# EAGLE library part IC_74AC573 (library dp_devices)
8 Transparent Latch with 3-state output Mfr no: SN74AC573NSR Digikey <http://www.digikey.com/product-detail/en/SN74AC573NSR/296-29119-1-ND/2690568>
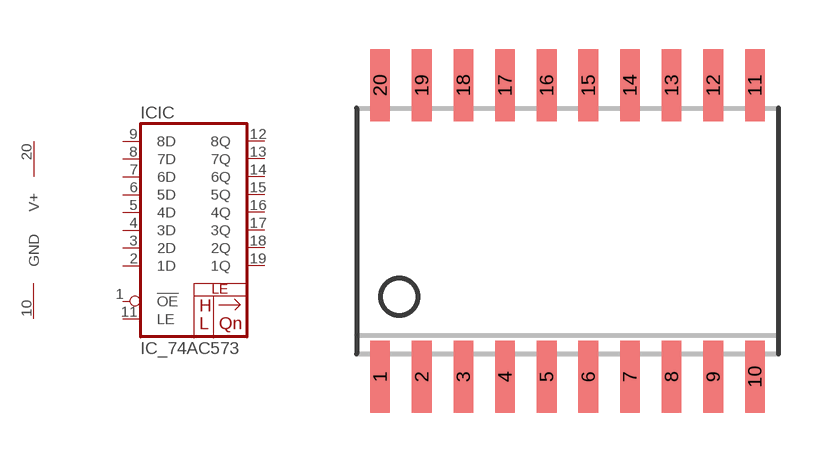
[diagram p109: symbol with the pads of SOIC-20; footprint SOIC-20]

Designator prefix IC; gates IC=74AC573 PWR=SUPPLY

## IC_74AC573  [SOIC-20]
1  IC:!OE  in
2  IC:1D
3  IC:2D
4  IC:3D
5  IC:4D
6  IC:5D
7  IC:6D
8  IC:7D
9  IC:8D
10  PWR:GND  sup
11  IC:LE  in
12  IC:8Q
13  IC:7Q
14  IC:6Q
15  IC:5Q
16  IC:4Q
17  IC:3Q
18  IC:2Q
19  IC:1Q
20  PWR:V+  sup

## Footprint SOIC-20 (pad centres in mm)
smd 0.6 x 2.2: 1 -5.715,-4.445; 2 -4.445,-4.445; 3 -3.175,-4.445; 4 -1.905,-4.445; 5 -0.635,-4.445; 6 0.635,-4.445; 7 1.905,-4.445; 8 3.175,-4.445; 9 4.445,-4.445; 10 5.715,-4.445; 11 5.715,4.445; 12 4.445,4.445; 13 3.175,4.445; 14 1.905,4.445; 15 0.635,4.445; 16 -0.635,4.445; 17 -1.905,4.445; 18 -3.175,4.445; 19 -4.445,4.445; 20 -5.715,4.445